# Altium schematic symbol library DAC8830.SchLib: 1 symbol
Pins are listed as number, name and electrical type; pins without a type are passive.

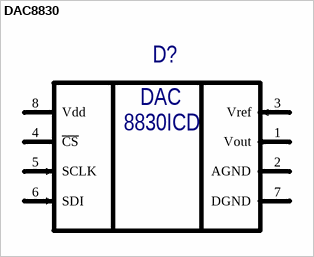
[diagram p0: symbol DAC8830]

## DAC8830
designator D?  (value not drawn)
Manufacturer: Texas Instruments; ManufacturerPartNumber: DAC8830; Type: Микросхема; BCPId: *; TU/GOST: *
footprint SO8 (SOIC, 8-Leads, Body 4.9x3.9mm, Pitch 1.27mm, IPC Low Density)
pins: 1 Vout (out), 2 AGND (power), 3 Vref (in), 4 ~{CS} (power), 5 SCLK (in), 6 SDI (in), 7 DGND (power), 8 Vdd (power)
text: DAC; 8830ICD